# Altium integrated library 24vDCDC.IntLib: 37 symbols
Pins are listed as number, name and electrical type; pins without a type are passive.

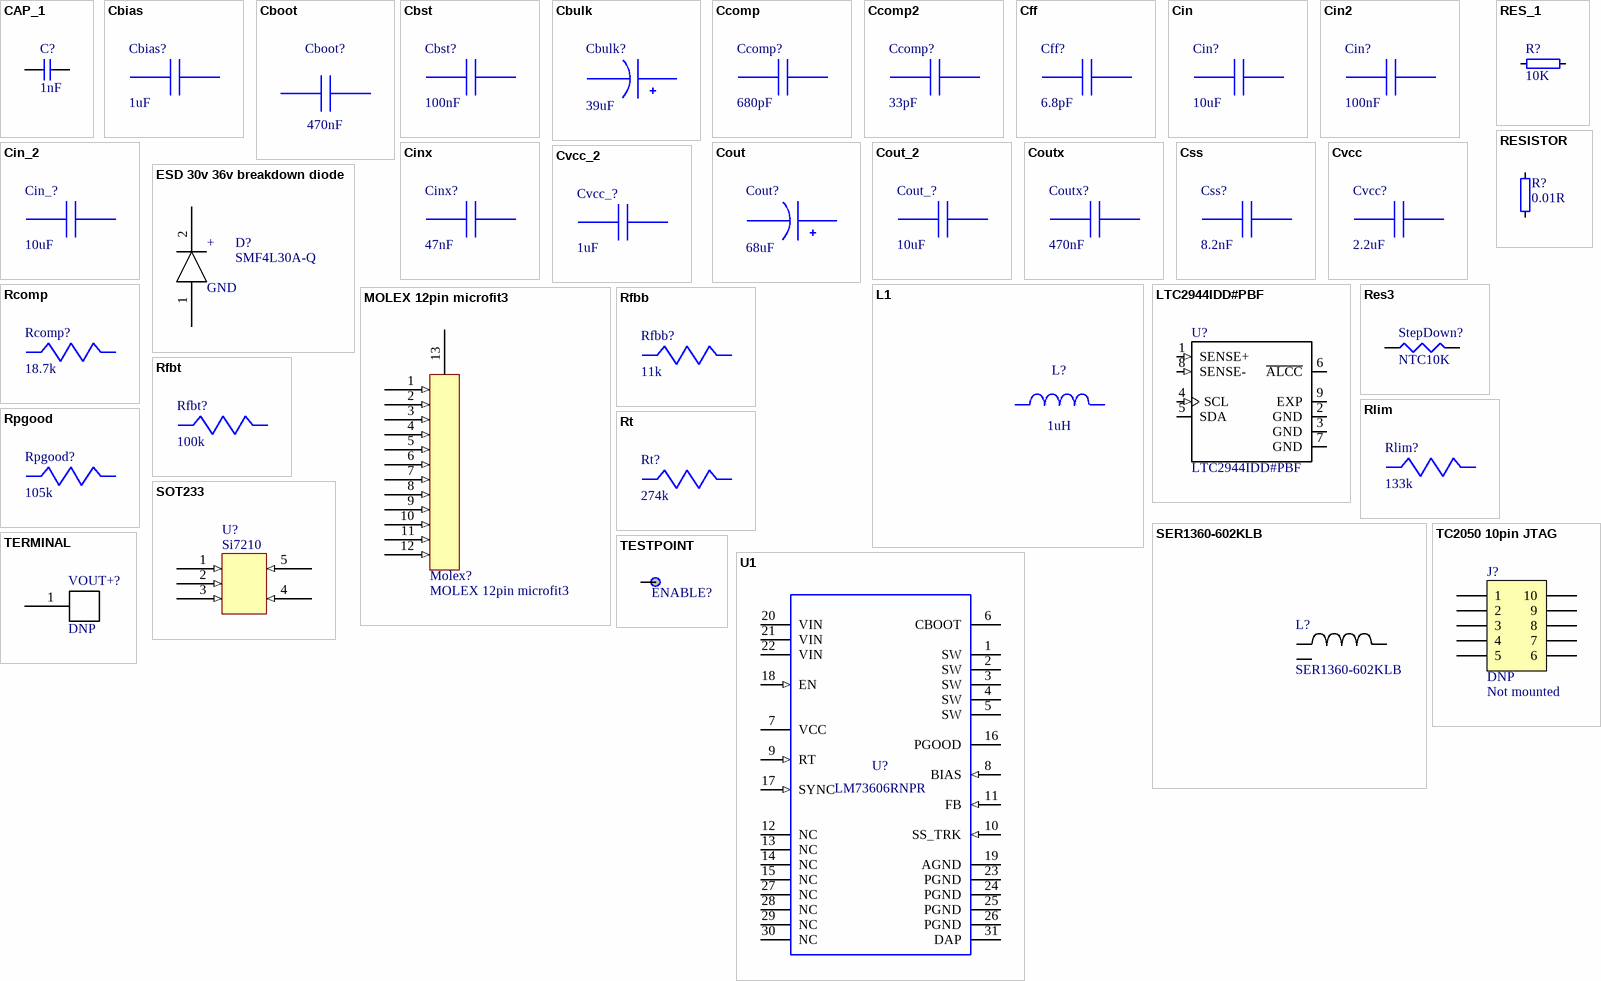
[diagram p0: symbols CAP_1 to U1]

## CAP_1
designator C?, comment 1nF
Capacitor, 0603, 25V, X5R; Part Number: C0603-10µF-25V; Part number IPS: N.A.; Value: 10µF; Artikkelnr Noca: 20039436; Manufacturer: *; Manufacturer Part Number: *; Footprint Doc: 0603; LatestRevisionDate: 2015-02-25; Pin Count: 2; Publisher: Nordic Semiconductor; Published: 2015-02-25; Note: 25V; ComponentLink1URL: *; ComponentLink1Description: Datasheet; ComponentLink2URL: *; ComponentLink2Description: Supplier link; HelpURL: *; Supplier 1: *; Supplier Part Number 1: *; Supplier 2: *; Supplier Part Number 2: *
footprint CAPC1608X06L
footprint C0201 (Footprint not found)
footprint C0402 (Footprint not found)
footprint CAPC1005X04L
footprint 0603
pins: 1, 2

## Cbias
designator Cbias?, comment value 1uF  (hidden comment: TMK212BJ105KG-T)
Manufacturer Name: Taiyo Yuden; PackageReference: TMK212BJ105KG-T; Manufacturer Part Number: TMK212BJ105KG-T
footprint 0603
pins: 1, 2

## Cboot
designator Cboot?, comment value 470nF  (hidden comment: GRM155R60J474KE19D)
GRM155R60J474KE1; Manufacturer Name: MuRata; PackageReference: GRM155R60J474KE19D; Manufacturer Part Number: GRM155R60J474KE19D
footprint 0603
pins: 1, 2

## Cbst
designator Cbst?, comment value 100nF  (hidden comment: GRM155R71C104KA88D)
GRM155R71C104KA8; Manufacturer Name: MuRata; PackageReference: GRM155R71C104KA88D; Manufacturer Part Number: GRM155R71C104KA88D
footprint 0603
pins: 1, 2

## Cbulk
designator Cbulk?, comment value 39uF  (hidden comment: 50SVPF39M)
Manufacturer Name: Panasonic; PackageReference: 50SVPF39M; Manufacturer Part Number: 50SVPF39M
footprint CAPSMT_62_F61
pins: 1 +, 2 -

## Ccomp
designator Ccomp?, comment value 680pF  (hidden comment: GRM033R71C681KA01D)
GRM033R71C681KA0; Manufacturer Name: MuRata; PackageReference: GRM033R71C681KA01D; Manufacturer Part Number: GRM033R71C681KA01D
footprint 0603
pins: 1, 2

## Ccomp2
designator Ccomp?, comment value 33pF  (hidden comment: CGA1A2C0G1E330J030BA)
CGA1A2C0G1E330J0; Manufacturer Name: TDK; PackageReference: CGA1A2C0G1E330J030BA; Manufacturer Part Number: CGA1A2C0G1E330J030BA
footprint 0603
pins: 1, 2

## Cff
designator Cff?, comment value 6.8pF  (hidden comment: GRM1555C1E6R8CA01D)
GRM1555C1E6R8CA0; Manufacturer Name: MuRata; PackageReference: GRM1555C1E6R8CA01D; Manufacturer Part Number: GRM1555C1E6R8CA01D
footprint 0603
pins: 1, 2

## Cin
designator Cin?, comment value 10uF  (hidden comment: CL32B106KBJNNWE)
Manufacturer Name: Samsung Electro-Mechanics; PackageReference: CL32B106KBJNNWE; Manufacturer Part Number: CL32B106KBJNNWE
footprint 0805
pins: 1, 2

## Cin2
designator Cin?, comment value 100nF  (hidden comment: C0603C104Z3VACTU)
Manufacturer Name: Kemet; PackageReference: C0603C104Z3VACTU; Manufacturer Part Number: C0603C104Z3VACTU
footprint 0603
pins: 1, 2

## Cin_2
designator Cin_?, comment value 10uF  (hidden comment: CL32B106KBJNNWE)
Manufacturer Name: Samsung Electro-Mechanics; PackageReference: CL32B106KBJNNWE; Manufacturer Part Number: CL32B106KBJNNWE
footprint 0805
pins: 1, 2

## Cinx
designator Cinx?, comment value 47nF  (hidden comment: GRM188R71H473KA61D)
GRM188R71H473KA6; Manufacturer Name: MuRata; PackageReference: GRM188R71H473KA61D; Manufacturer Part Number: GRM188R71H473KA61D
footprint 0603
pins: 1, 2

## Cout
designator Cout?, comment value 68uF  (hidden comment: APXE160ARA680MF61G)
APXE160ARA680MF6; Manufacturer Name: Chemi-Con; PackageReference: APXE160ARA680MF61G; Manufacturer Part Number: APXE160ARA680MF61G
footprint CAPSMT_62_E12
pins: 1 +, 2 -

## Cout_2
designator Cout_?, comment value 10uF  (hidden comment: C3216X6S1V106K160AC)
C3216X6S1V106K16; Manufacturer Name: TDK; PackageReference: C3216X6S1V106K160AC; Manufacturer Part Number: C3216X6S1V106K160AC
footprint 0805
pins: 1, 2

## Coutx
designator Coutx?, comment value 470nF  (hidden comment: C1608X6S1H474K080AB)
C1608X6S1H474K08; Manufacturer Name: TDK; PackageReference: C1608X6S1H474K080AB; Manufacturer Part Number: C1608X6S1H474K080AB
footprint 0603
pins: 1, 2

## Css
designator Css?, comment value 8.2nF  (hidden comment: GRM155R71C822KA01D)
GRM155R71C822KA0; Manufacturer Name: MuRata; PackageReference: GRM155R71C822KA01D; Manufacturer Part Number: GRM155R71C822KA01D
footprint 0201
footprint 0402
footprint 0603
pins: 1, 2

## Cvcc
designator Cvcc?, comment value 2.2uF  (hidden comment: EMK212BJ225KG-T)
Manufacturer Name: Taiyo Yuden; PackageReference: EMK212BJ225KG-T; Manufacturer Part Number: EMK212BJ225KG-T
footprint 0805
pins: 1, 2

## Cvcc_2
designator Cvcc_?, comment value 1uF  (hidden comment: EMK107B7105KA-T)
Manufacturer Name: Taiyo Yuden; PackageReference: EMK107B7105KA-T; Manufacturer Part Number: EMK107B7105KA-T
footprint 0603
pins: 1, 2

## ESD 30v 36v breakdown diode
designator D?, comment SMF4L30A-Q
MPN: SM8S30A-Q; ComponentLink1Description: Datasheet; ComponentLink1URL: https://no.mouser.com/datasheet/2/54/bourns_02072019_SM8S-Q-1531110.pdf; ComponentLink2Description: mouser; ComponentLink2URL: https://no.mouser.com/ProductDetail/Bourns/SMF4L30A-Q?qs=sGAEpiMZZMvxHShE6Whpu3D6egibaSMYBDlTltsEcgE%3D
footprint ESD 30v diode Bourns
footprint ESD 30v diode Bourns smaller
pins: 1 15, 2 14
text: +; GND

## L1
designator L?, comment value 1uH  (hidden comment: VLP8040T-1R0N)
Unknown; Manufacturer Name: TDK; PackageReference: VLP8040T-1R0N; Manufacturer Part Number: VLP8040T-1R0N
footprint VLP8040
pins: 1, 2

## LTC2944IDD#PBF
designator U?
LTC2944 - 60V Battery Gas Gauge with Temperature, Voltage and Current Measurement; MF: Linear Technology/Analog; Package: DFN-8 Linear Technology; Availability: Unavailable; MP: LTC2944IDD#PBF; Price: None; SnapEDA_Link: https://www.snapeda.com/parts/LTC2944IDD%23PBF/Analog%20Devices/view-part/?ref=snap; Value: *
footprint *SON300X300X80-9N
pins: 1 SENSE+ (in), 2 GND (power), 3 GND (power), 4 SCL (in), 5 SDA (io), 6 ~{ALCC} (io), 7 GND (power), 8 SENSE- (in), 9 EXP

## MOLEX 12pin microfit3
designator Molex?
43650-1212; ComponentLink1Description: mouser; ComponentLink1URL: https://eu.mouser.com/ProductDetail/Molex/43650-1212?qs=sGAEpiMZZMs%252BGHln7q6pmzorV8rj9woRbgLd20ftk7I%3D
footprint Molex Microfit3 12pin
pins: 1 (in), 2 (in), 3 (in), 4 (in), 5 (in), 6 (in), 7 (in), 8 (in), 9 (in), 10 (in), 11 (in), 12 (in), 13

## Rcomp
designator Rcomp?, comment value 18.7k  (hidden comment: RC0201FR-0718K7L)
Manufacturer Name: Yageo; PackageReference: RC0201FR-0718K7L; Manufacturer Part Number: RC0201FR-0718K7L
footprint 0603
footprint RES0603R (resistor 0603 reflow soldering)
pins: 1, 2

## Res3
designator StepDown?, comment NTC10K
NTCG163JX103DT1S; Published: 8-Jun-2000; LatestRevisionDate: 29-May-2009; LatestRevisionNote: IPC-7351 Footprint Added.; PackageReference: J1-0603; Publisher: Altium Limited; PackageDescription: Chip Resistor; Value: NTC10K
footprint J1-0603 (Chip Resistor, Body 1.6x0.8mm, IPC High Density)
footprint 14-1210 (Chip Resistor, Body 3.2x2.5mm, IPC High Density)
footprint 12Z-2010 (Chip Resistor, Body 5.0x2.5mm, IPC High Density)
footprint RESC6332 (Chip Resistor, Body 6.3x3.2mm, IPC High Density)
simulation model RESISTOR (Resistor)
signal-integrity model Res
footprint RES0603R (resistor 0603 reflow soldering)
pins: 1, 2

## RES_1
designator R?, comment 10K
Resistor, ±5%, 0.05W; Part Number: R0201-0R; Part number IPS: 00000003245; Value: 0R; Note: Chip Res 5%; Artikkelnr Noca: N.A.; Manufacturer: *; Manufacturer Part Number: *; ComponentLink1URL: *; ComponentLink1Description: Datasheet; ComponentLink2URL: *; ComponentLink2Description: Supplier link; HelpURL: *; Footprint Doc: 0201; LatestRevisionDate: 2017-11-09; Pin Count: 2; Publisher: Nordic Semiconductor; Published: 2014-11-13; Supplier 1: *; Supplier Part Number 1: *; Supplier 2: *; Supplier Part Number 2: *
footprint RESC0603X03L_C
footprint RESC0603X03L_C_2
footprint R0402_L (Chip Resistor, 2-Leads, Body 1.0x0.5mm, IPC High Density)
footprint C0603_L (Capacitor, 0603, High Density (C))
footprint RES_MNR04-8 (Chip resistor network 8pin)
footprint 0603
footprint RES0603R (resistor 0603 reflow soldering)
pins: 1, 2

## RESISTOR
designator R?, comment 0.01R
Resistor, ±5%, 0.05W; Part Number: R0201-0R; Part number IPS: 00000003245; Value: 0R; Note: Chip Res 5%; Artikkelnr Noca: N.A.; Manufacturer: *; Manufacturer Part Number: *; ComponentLink1URL: *; ComponentLink1Description: Datasheet; ComponentLink2URL: *; ComponentLink2Description: Supplier link; HelpURL: *; Footprint Doc: 0201; LatestRevisionDate: 2017-11-09; Pin Count: 2; Publisher: Nordic Semiconductor; Published: 2014-11-13; Supplier 1: *; Supplier Part Number 1: *; Supplier 2: *; Supplier Part Number 2: *
footprint RES1206R (resistor 1206 reflow soldering)
footprint RES0603R (resistor 0603 reflow soldering)
footprint RES0805R (resistor 0805 reflow soldering)
footprint RES0402R (resistor 0402 reflow soldering)
pins: 1, 2

## Rfbb
designator Rfbb?, comment value 11k  (hidden comment: CRCW040211K0FKED)
Manufacturer Name: Vishay-Dale; PackageReference: CRCW040211K0FKED; Manufacturer Part Number: CRCW040211K0FKED
footprint 0603
footprint RES0603R (resistor 0603 reflow soldering)
pins: 1, 2

## Rfbt
designator Rfbt?, comment value 100k  (hidden comment: CRCW0402100KFKED)
Manufacturer Name: Vishay-Dale; PackageReference: CRCW0402100KFKED; Manufacturer Part Number: CRCW0402100KFKED
footprint 0603
footprint RES0603R (resistor 0603 reflow soldering)
pins: 1, 2

## Rlim
designator Rlim?, comment value 133k  (hidden comment: RC0201FR-07133KL)
Manufacturer Name: Yageo; PackageReference: RC0201FR-07133KL; Manufacturer Part Number: RC0201FR-07133KL
footprint 0402
footprint 0603
footprint RES0603R (resistor 0603 reflow soldering)
pins: 1, 2

## Rpgood
designator Rpgood?, comment value 105k  (hidden comment: RC0201FR-07105KL)
Manufacturer Name: Yageo; PackageReference: RC0201FR-07105KL; Manufacturer Part Number: RC0201FR-07105KL
footprint 0603
footprint RES0603R (resistor 0603 reflow soldering)
pins: 1, 2

## Rt
designator Rt?, comment value 274k  (hidden comment: CRCW0603274KFKEA)
Manufacturer Name: Vishay-Dale; PackageReference: CRCW0603274KFKEA; Manufacturer Part Number: CRCW0603274KFKEA
footprint 0603
footprint RES0603R (resistor 0603 reflow soldering)
pins: 1, 2

## SER1360-602KLB
designator L?
Imported; Vendor: Coilcraft; Value: Value; Manufacturer_Part_Number: SER1360-602KLB; Manufacturer_Name: Coilcraft; RefDes: RefDes; TYPE: TYPE
footprint SER1360
pins: 1, 2, 3

## SOT233
designator U?, comment Si7210
Si7210 I2C Hall Effect Magnetic Position; ComponentLink1Description: datasheet; ComponentLink1URL: https://www.silabs.com/documents/public/data-sheets/si7210-datasheet.pdf
footprint SOT23-5_L (SOT23, 5-Leads, Body 2.95x2.80mm, Pitch 0.95mm, IPC High Density)
pins: 1 (in), 2 (in), 3 (in), 4 (in), 5 (in)

## TC2050 10pin JTAG
designator J?, comment DNP  Assembly: Not mounted
CBL PLUG-OF-NAILS 10-PIN; Part Number: TC2050-IDC-NLFP; Manufacturer: Tag-Connect LLC; Value: TC2050-IDC; Artikkelnr Noca: N.A.; Manufacturer Part Number: TC2050-IDC-NLFP; LatestRevisionDate: 2012-11-21; Publisher: Nordic Semiconductor; Published: 2012-11-21; Pin Count: 10; Footprint Doc: TC2050-IDC-NLFP; Part number IPS: N.A.; HelpURL: http://www.tag-connect.com/Materials/TC2050-IDC%20Datasheet.pdf; Supplier 1: Digi-Key; Supplier Part Number 1: TC2050-IDC-NL-ND; Supplier 2: *; Supplier Part Number 2: *; ComponentLink3Description: link; ComponentLink3URL: https://www.telexsus.com/products/tag-connect/tc2050-idc-nl
footprint TC2050-IDC-NLFP
pins: 1, 2, 3, 4, 5, 6, 7, 8, 9, 10

## TERMINAL
designator VOUT+?, comment DNP
footprint Terminal (Connection Terminal for soldering wire)
pins: 1

## TESTPOINT
designator ENABLE?  (value not drawn)
footprint Testpoint
pins: 1 TP

## U1
designator U?, comment LM73606RNPR
Manufacturer Name: Texas Instruments; PackageReference: LM73606RNPR; Manufacturer Part Number: LM73606RNPR; Value: N/A
footprint RNP0030A
pins: 1 SW (power), 2 SW (power), 3 SW (power), 4 SW (power), 5 SW (power), 6 CBOOT (power), 7 VCC (power), 8 BIAS (in), 9 RT (in), 10 SS_TRK (in), 11 FB (in), 12 NC, 13 NC, 14 NC, 15 NC, 16 PGOOD (oc), 17 SYNC (in), 18 EN (in), 19 AGND (power), 20 VIN (power), 21 VIN (power), 22 VIN (power), 23 PGND (power), 24 PGND (power), 25 PGND (power), 26 PGND (power), 27 NC, 28 NC, 29 NC, 30 NC, 31 DAP (power)